# EAGLE library part DS1375 (library brokenlcd)
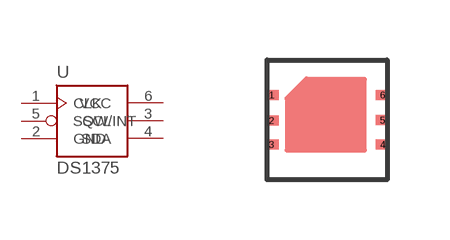
[diagram p1: symbol with the pads of TDFN6; footprint TDFN6]

Designator prefix -

## DS1375  [TDFN6]
1  CLK  in
2  GND  pwr
3  SCL  in
4  SDA
5  SQW/INT  out
6  VCC  pwr

## Footprint TDFN6 (pad centres in mm)
smd 0.35 x 0.25: 1 -0.89,0.12; 2 -0.89,-0.52; 3 -0.89,-1.12; 4 1.89,-1.12; 5 1.89,-0.51; 6 1.89,0.12